# Altium footprint library AGC.PcbLib: 4 footprints
Each footprint in its own frame and in the unit in brackets; x right, y up, seen from the top. Pads: shape width x height; smd on the part's side, far side on the other; paste and mask are expansions set on the pad; w line width, h text height; cw(c..) or ccw(c..) is an arc to the next point about the centre after c.
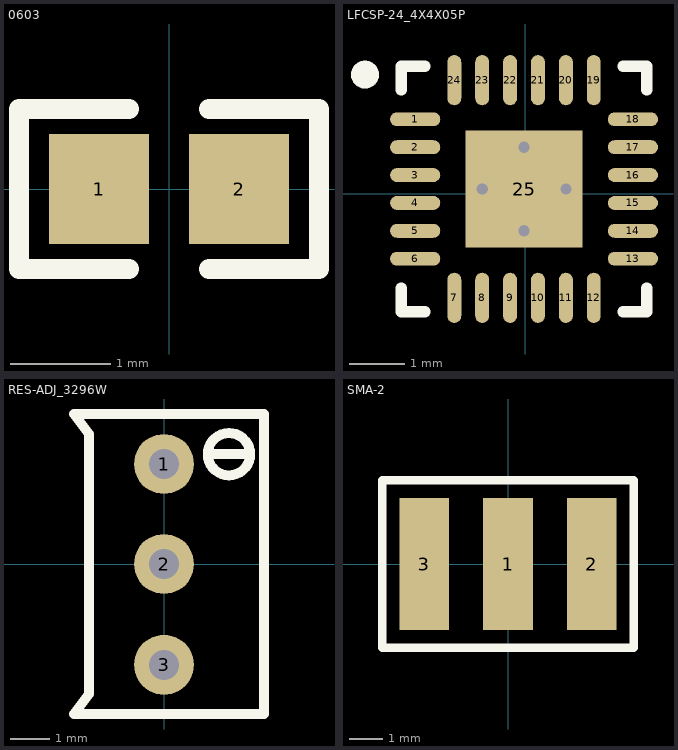
[diagram p0: the footprints below, top view; thin cyan lines are the x and y axes]

## 0603 [mm]
pads (2):
  rect 1x1.1 smd: 1(-0.7,0) 2(0.7,0)
Top Overlay:
  lines w0.2: -0.4,-0.8 -1.5,-0.8 -1.5,-0.2 -1.5,0.8 -0.4,0.8 ; 0.4,-0.8 1.5,-0.8 1.5,0.8 0.4,0.8

## LFCSP-24_4X4X05P [mm]
pads (25):
  oval 0.9x0.25 smd: 1(-1.971,1.331) 2(-1.971,0.831) 3(-1.971,0.33) 4(-1.971,-0.168) 5(-1.971,-0.668) 6(-1.971,-1.168) 13(1.93,-1.168) 14(1.93,-0.668) 15(1.93,-0.168) 16(1.93,0.33) 17(1.93,0.831) 18(1.93,1.331)
  oval 0.25x0.9 smd: 7(-1.27,-1.869) 8(-0.77,-1.869) 9(-0.269,-1.869) 10(0.229,-1.869) 11(0.729,-1.869) 12(1.229,-1.869) 19(1.229,2.032) 20(0.729,2.032) 21(0.229,2.032) 22(-0.269,2.032) 23(-0.77,2.032) 24(-1.27,2.032)
  rect 2.1x2.1 smd: 25(-0.02,0.081)
via -0.02,-0.668 diameter 0.5 hole 0.2
via 0.729,0.081 diameter 0.5 hole 0.2
via -0.02,0.831 diameter 0.5 hole 0.2
via -0.77,0.081 diameter 0.5 hole 0.2
Top Overlay:
  lines w0.2: -2.22,-1.694 -2.22,-2.119 -1.795,-2.119 ; -2.22,1.856 -2.22,2.281 -1.795,2.281 ; 1.755,-2.119 2.18,-2.119 2.18,-1.694 ; 1.755,2.281 2.18,2.281 2.18,1.856
  lines w0.25: -2.746,2.129 cw(c-2.871,2.13) -2.746,2.131
Top Paste:
  region: -0.97,1.031 0.93,1.031 0.93,-0.869 -0.97,-0.869

## RES-ADJ_3296W [mil]
pads (3):
  round 60 hole 30: 1(0,100) 2(0,0) 3(0,-100.79)
Top Overlay:
  lines w10: 50,110 65,110 ; 86.2,109.6 cw(c64.99,109.8) 86.2,110 ; 65,110 80,110 65,110 ; -90,-150 100,-150 100,150 -80,150 -90,150 -75,130 -75,-130 -90,-150

## SMA-2 [mm]
pads (3):
  rect 1.5x4 smd: 1(0,0)
  rect 1.5x4 all layers, no hole: 2(2.54,0) 3(-2.54,0)
Top Overlay:
  lines w0.254: -3.81,-2.54 -3.81,-2.286 -3.81,2.54 3.81,2.54 3.81,-2.54 -3.81,-2.54